# Altium schematic symbol library SN74CBTLV3251D.SchLib: 1 symbol
Pins are listed as number, name and electrical type; pins without a type are passive.

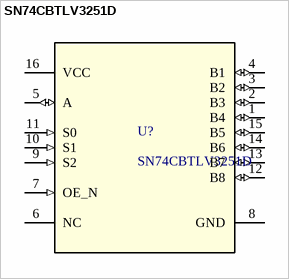
[diagram p0: symbol SN74CBTLV3251D]

## SN74CBTLV3251D
designator U?
No Description Available; Mfr_Name: Texas Instruments; Type: DEV; RefDes: RefDes; Copyright: Copyright (C) 2023 Ultra Librarian. All rights reserved.; Manufacturer_Part_Number: SN74CBTLV3251D
footprint D0016A_N
footprint D0016A_M
footprint D0016A_L
pins: 1 B4 (io), 2 B3 (io), 3 B2 (io), 4 B1 (io), 5 A (io), 6 NC, 7 OE_N (in), 8 GND (power), 9 S2 (in), 10 S1 (in), 11 S0 (in), 12 B8 (io), 13 B7 (io), 14 B6 (io), 15 B5 (io), 16 VCC (power)